# Altium schematic symbol library JST-GH.SchLib: 12 symbols
Pins are listed as number, name and electrical type; pins without a type are passive.

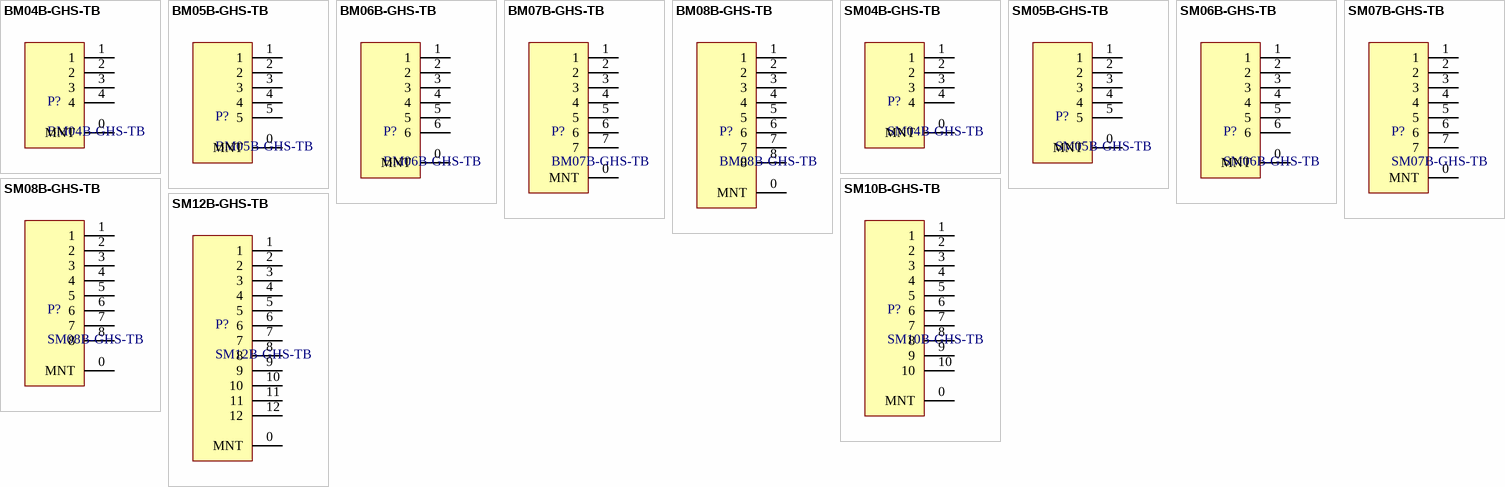
[diagram p0: symbols BM04B-GHS-TB to SM12B-GHS-TB]

## BM04B-GHS-TB
designator P?
pins: 0 MNT (power), 1 (power), 2 (power), 3 (power), 4 (power)

## BM05B-GHS-TB
designator P?
pins: 0 MNT (power), 1 (power), 2 (power), 3 (power), 4 (power), 5 (power)

## BM06B-GHS-TB
designator P?
pins: 0 MNT (power), 1 (power), 2 (power), 3 (power), 4 (power), 5 (power), 6 (power)

## BM07B-GHS-TB
designator P?
pins: 0 MNT (power), 1 (power), 2 (power), 3 (power), 4 (power), 5 (power), 6 (power), 7 (power)

## BM08B-GHS-TB
designator P?
pins: 0 MNT (power), 1 (power), 2 (power), 3 (power), 4 (power), 5 (power), 6 (power), 7 (power), 8 (power)

## SM04B-GHS-TB
designator P?
pins: 0 MNT (power), 1 (power), 2 (power), 3 (power), 4 (power)

## SM05B-GHS-TB
designator P?
pins: 0 MNT (power), 1 (power), 2 (power), 3 (power), 4 (power), 5 (power)

## SM06B-GHS-TB
designator P?
pins: 0 MNT (power), 1 (power), 2 (power), 3 (power), 4 (power), 5 (power), 6 (power)

## SM07B-GHS-TB
designator P?
pins: 0 MNT (power), 1 (power), 2 (power), 3 (power), 4 (power), 5 (power), 6 (power), 7 (power)

## SM08B-GHS-TB
designator P?
pins: 0 MNT (power), 1 (power), 2 (power), 3 (power), 4 (power), 5 (power), 6 (power), 7 (power), 8 (power)

## SM10B-GHS-TB
designator P?
pins: 0 MNT (power), 1 (power), 2 (power), 3 (power), 4 (power), 5 (power), 6 (power), 7 (power), 8 (power), 9 (power), 10 (power)

## SM12B-GHS-TB
designator P?
pins: 0 MNT (power), 1 (power), 2 (power), 3 (power), 4 (power), 5 (power), 6 (power), 7 (power), 8 (power), 9 (power), 10 (power), 11 (power), 12 (power)